# EAGLE library part REZZONICS_74LVC1G175 (library DMFX-1_v1.0)
SINGLE D-TYPE FLIP-FLOP WITH ASYNCHRONOUS CLEAR
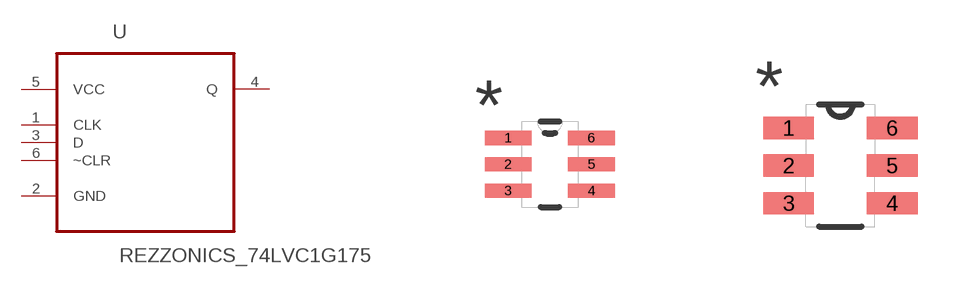
[diagram p9: symbol with the pads of REZZONICS_SOT65P210X110-6N; footprints REZZONICS_SOT65P210X110-6N, REZZONICS_SOT95P280X145-6N]

Designator prefix U

## REZZONICS_74LVC1G175SOT65, REZZONICS_74LVC1G175DCKSOT65  [REZZONICS_SOT65P210X110-6N]
1  CLK  in
2  GND  pas
3  D  in
4  Q  out
5  VCC  pwr
6  ~CLR  in

## REZZONICS_74LVC1G175SOT95, REZZONICS_74LVC1G175DBVSOT95  [REZZONICS_SOT95P280X145-6N]
Pads as for REZZONICS_SOT65P210X110-6N

## Footprint REZZONICS_SOT65P210X110-6N (pad centres in mm)
smd 1.168 x 0.356: 1 -1.041,0.66; 2 -1.041,0; 3 -1.041,-0.66; 4 1.041,-0.66; 5 1.041,0; 6 1.041,0.66

## Footprint REZZONICS_SOT95P280X145-6N (pad centres in mm)
smd 1.27 x 0.559: 1 -1.295,0.94; 2 -1.295,0; 3 -1.295,-0.94; 4 1.295,-0.94; 5 1.295,0; 6 1.295,0.94